# Altium footprint library TPS75233QPWPREP.PcbLib: 2 footprints
Each footprint in its own frame and in the unit in brackets; x right, y up, seen from the top. Pads: shape width x height; smd on the part's side, far side on the other; paste and mask are expansions set on the pad; w line width, h text height; cw(c..) or ccw(c..) is an arc to the next point about the centre after c.
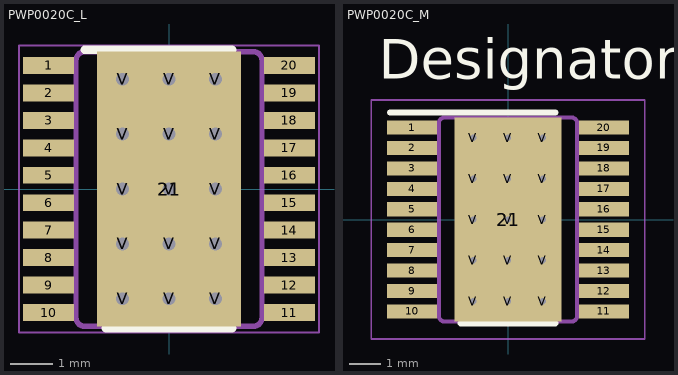
[diagram p0: the footprints below, top view; thin cyan lines are the x and y axes]

## PWP0020C_L [mm]
pads (36):
  rect 1.2x0.4 smd paste+0 mask+0.051: 1(-2.85,2.925) 2(-2.85,2.275) 3(-2.85,1.625) 4(-2.85,0.975) 5(-2.85,0.325) 6(-2.85,-0.325) 7(-2.85,-0.975) 8(-2.85,-1.625) 9(-2.85,-2.275) 10(-2.85,-2.925) 11(2.85,-2.925) 12(2.85,-2.275) 13(2.85,-1.625) 14(2.85,-0.975) 15(2.85,-0.325) 16(2.85,0.325) 17(2.85,0.975) 18(2.85,1.625) 19(2.85,2.275) 20(2.85,2.925)
  rect 3.4x6.5 smd paste-1.7 mask-1.702: 21(0,0)
  round 0.5 hole 0.3 paste-0.25 mask+0.051: V(-1.1,-2.6) V(-1.1,2.6) V(0,-2.6) V(0,-1.3) V(0,0) V(0,1.3) V(0,2.6) V(1.1,-2.6) V(1.1,2.6)
  round 0.5 hole 0.3 paste-0.25 mask-0.102: V(-1.1,-1.3) V(-1.1,0) V(-1.1,1.3) V(1.1,-1.3) V(1.1,0) V(1.1,1.3)
Top Overlay:
  lines w0.2: -2,3.3 1.5,3.3 ; -1.5,-3.3 1.5,-3.3
Top Paste:
  region: -1.199,-1.651 -1.2,-1.642 -1.2,1.642 -1.199,1.651 -1.196,1.66 -1.192,1.669 -1.186,1.676 -1.179,1.682 -1.17,1.686 -1.161,1.689 -1.152,1.69 1.152,1.69 1.161,1.689 1.17,1.686 1.179,1.682 1.186,1.676 1.192,1.669 1.196,1.66 1.199,1.651 1.2,1.642 1.2,-1.642 1.199,-1.651 1.196,-1.66 1.192,-1.669 1.186,-1.676 1.179,-1.682 1.17,-1.686 1.161,-1.689 1.152,-1.69 -1.152,-1.69 -1.161,-1.689 -1.17,-1.686 -1.179,-1.682 -1.186,-1.676 -1.192,-1.669 -1.196,-1.66
Top Solder:
  region: -1.199,-1.651 -1.2,-1.642 -1.2,1.642 -1.199,1.651 -1.196,1.66 -1.192,1.669 -1.186,1.676 -1.179,1.682 -1.17,1.686 -1.161,1.689 -1.152,1.69 1.152,1.69 1.161,1.689 1.17,1.686 1.179,1.682 1.186,1.676 1.192,1.669 1.196,1.66 1.199,1.651 1.2,1.642 1.2,-1.642 1.199,-1.651 1.196,-1.66 1.192,-1.669 1.186,-1.676 1.179,-1.682 1.17,-1.686 1.161,-1.689 1.152,-1.69 -1.152,-1.69 -1.161,-1.689 -1.17,-1.686 -1.179,-1.682 -1.186,-1.676 -1.192,-1.669 -1.196,-1.66
Mechanical 13:
  drawing of 250 lines, arcs and shapes, not listed
Mechanical 15:
  lines w0.05: -3.55,-3.4 -3.55,3.4 3.55,3.4 3.55,-3.4 -3.55,-3.4
  lines w0.1: -0.5,0 0.5,0 ; 0,-0.5 0,0.5
3D body "PWP0020C.stp": height 1.13, standoff 0, extent -3.2,-3.25 3.2,3.25

## PWP0020C_M [mm]
pads (36):
  rect 1.6x0.45 smd paste+0 mask+0.051: 1(-3.05,2.925) 2(-3.05,2.275) 3(-3.05,1.625) 4(-3.05,0.975) 5(-3.05,0.325) 6(-3.05,-0.325) 7(-3.05,-0.975) 8(-3.05,-1.625) 9(-3.05,-2.275) 10(-3.05,-2.925) 11(3.05,-2.925) 12(3.05,-2.275) 13(3.05,-1.625) 14(3.05,-0.975) 15(3.05,-0.325) 16(3.05,0.325) 17(3.05,0.975) 18(3.05,1.625) 19(3.05,2.275) 20(3.05,2.925)
  rect 3.4x6.5 smd paste-1.7 mask-1.702: 21(0,0)
  round 0.5 hole 0.203 paste-0.25 mask+0.051: V(-1.1,-2.6) V(-1.1,2.6) V(0,-2.6) V(0,-1.3) V(0,0) V(0,1.3) V(0,2.6) V(1.1,-2.6) V(1.1,2.6)
  round 0.5 hole 0.203 paste-0.25 mask-0.102: V(-1.1,-1.3) V(-1.1,0) V(-1.1,1.3) V(1.1,-1.3) V(1.1,0) V(1.1,1.3)
Top Overlay:
  lines w0.2: -3.75,3.4 1.5,3.4 ; -1.5,-3.3 1.5,-3.3
  text "Designator60" at -4.115,4.47 h1.27
  text ".Designator" at -3.492,-0.635 h1.27
Top Paste:
  region: -1.199,-1.651 -1.2,-1.642 -1.2,1.642 -1.199,1.651 -1.196,1.66 -1.192,1.669 -1.186,1.676 -1.179,1.682 -1.17,1.686 -1.161,1.689 -1.152,1.69 1.152,1.69 1.161,1.689 1.17,1.686 1.179,1.682 1.186,1.676 1.192,1.669 1.196,1.66 1.199,1.651 1.2,1.642 1.2,-1.642 1.199,-1.651 1.196,-1.66 1.192,-1.669 1.186,-1.676 1.179,-1.682 1.17,-1.686 1.161,-1.689 1.152,-1.69 -1.152,-1.69 -1.161,-1.689 -1.17,-1.686 -1.179,-1.682 -1.186,-1.676 -1.192,-1.669 -1.196,-1.66
Top Solder:
  region: -1.199,-1.651 -1.2,-1.642 -1.2,1.642 -1.199,1.651 -1.196,1.66 -1.192,1.669 -1.186,1.676 -1.179,1.682 -1.17,1.686 -1.161,1.689 -1.152,1.69 1.152,1.69 1.161,1.689 1.17,1.686 1.179,1.682 1.186,1.676 1.192,1.669 1.196,1.66 1.199,1.651 1.2,1.642 1.2,-1.642 1.199,-1.651 1.196,-1.66 1.192,-1.669 1.186,-1.676 1.179,-1.682 1.17,-1.686 1.161,-1.689 1.152,-1.69 -1.152,-1.69 -1.161,-1.689 -1.17,-1.686 -1.179,-1.682 -1.186,-1.676 -1.192,-1.669 -1.196,-1.66
Mechanical 13:
  drawing of 250 lines, arcs and shapes, not listed
  text ".Designator" at -3.492,-0.635 h1.27
Mechanical 15:
  lines w0.05: -4.35,-3.8 -4.35,3.8 4.35,3.8 4.35,-3.8 -4.35,-3.8
  lines w0.1: -0.5,0 0.5,0 ; 0,-0.5 0,0.5